# EAGLE library part EEPROM_SPI (library my_ic)
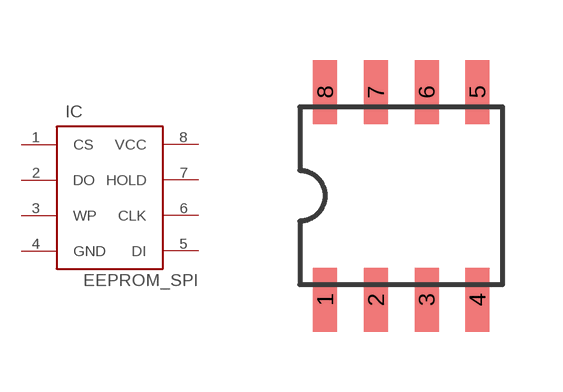
[diagram p26: symbol with the pads of SOP8; footprint SOP8]

Designator prefix IC

## EEPROM_SPI  [SOP8]
1  CS  in
2  DO  out
3  WP  in
4  GND  pwr
5  DI  in
6  CLK  in
7  HOLD  in
8  VCC  pwr

## Footprint SOP8 (pad centres in mm)
SOP8 Source: http://www.rohm.com/products/databook/motor/pdf/bd623x_series-e.pdf
smd 0.6 x 1.6: 1 -1.905,-2.6; 2 -0.635,-2.6; 3 0.635,-2.6; 4 1.905,-2.6; 5 1.905,2.6; 6 0.635,2.6; 7 -0.635,2.6; 8 -1.905,2.6